# Altium schematic symbol library Inductors.SchLib: 19 symbols
Pins are listed as number, name and electrical type; pins without a type are passive.

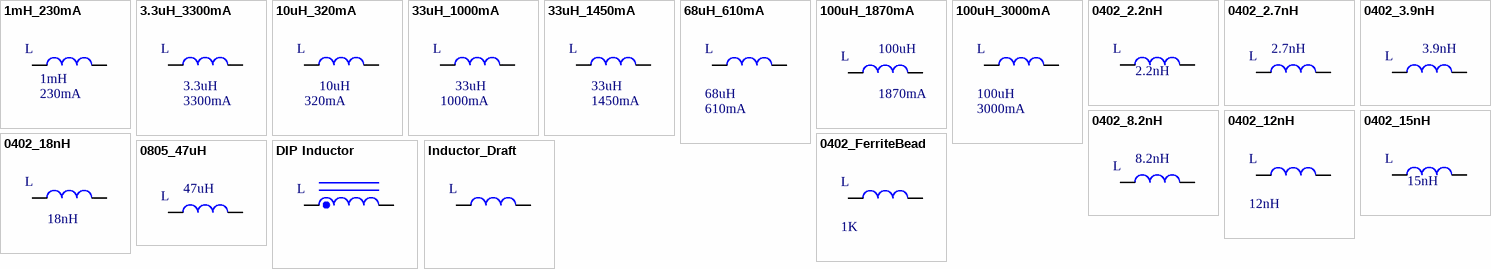
[diagram p0: symbols 1mH_230mA to Inductor_Draft]

## 1mH_230mA
designator L  value 1mH  Current: 230mA  (hidden comment: *)
Manufacturer: Multicomp; Manufacturer Code: MCSDC1006-102KU; Farnell Code: 1864199; Unit Price: 0,21 €
footprint MCSDC1006-102KU
pins: 1, 2

## 3.3uH_3300mA
designator L  value 3.3uH  Current: 3300mA  (hidden comment: *)
Manufacturer: WURTH ELEKTRONIK; Manufacturer Code: 7447779003; Unit Price: 2,03 €; Farnell Code: 2082705; MOQ: 1
footprint Power Inductor
pins: 1, 2

## 10uH_320mA
designator L  value 10uH  Current: 320mA  (hidden comment: *)
Manufacturer: WURTH ELEKTRONIK; Manufacturer Code: 744032100; Farnell Code: 1800387RL; MOQ: 10; Unit Price: 0,74 €
footprint 744032100 (Footprint not found)
pins: 1, 2

## 33uH_1000mA
designator L  value 33uH  Current: 1000mA  (hidden comment: *)
footprint 33uH (7x7x4 Dimensions)
pins: 1, 2

## 33uH_1450mA
designator L  value 33uH  Current: 1450mA  (hidden comment: *)
Manufacturer: Murata Power Solutions; Manufacturer Code: 46333C; Unit Price: 0,67; Farnell Code: 2062833
footprint Power Inductor
pins: 1, 2

## 68uH_610mA
designator L  value 68uH  Current: 610mA  (hidden comment: *)
Manufacturer: EPCOS; Manufacturer Code: B82471A1683K000; DC Resistance: 0.46R; Farnell Code: 1644566; Unit Price: 0,64 €
footprint B82471A1 (Dimensions 6.1x5.6x4.9 [mm])
pins: 1, 2

## 100uH_1870mA
designator L  value 100uH  Current: 1870mA  (hidden comment: *)
Manufacturer Code: B82477P4104M000; Manufacturer: EPCOS; DC Resistance: 0.138R; Farnell Code: 1644643; Unit Price: 1,52 €
footprint B82477P4 (Dimension 12.5x12.5x8.5 [mm])
pins: 1, 2

## 100uH_3000mA
designator L  value 100uH  Current: 3000mA  (hidden comment: *)
Manufacturer Code: SDR2207-101KL; Manufacturer: BOURNS; Unit Price: 1,15 €; Farnell Code: 1612709
footprint SDR2207-101KL (Dimension 15x22x7 [mm])
pins: 1, 2

## 0402_2.2nH
designator L  value 2.2nH  (hidden comment: *)
Manufacturer: MURATA; Manufacturer Code: LWQ15AN2N2C10D; Tolerance: ±2%; DC Current Rating: 1000mA; Unit Price: 0,48 €; Farnell Code: 1762601
footprint 0402 Inductor
pins: 1, 2

## 0402_2.7nH
designator L  value 2.7nH  (hidden comment: *)
Manufacturer: JOHANSON TECHNOLOGY; Manufacturer Code: L-07W2N7CV4T; DC Current: 640mA; Tolerance: ± 0.2nH; Unit Price: 0,108 €; Farnell Code: 1865823
footprint 0402 Inductor
pins: 1, 2

## 0402_3.9nH
designator L  value 3.9nH  (hidden comment: *)
Manufacturer: JOHANSON TECHNOLOGY; Manufacturer Code: L-07W3N9CV4T; Tolerance: ± 0.2nH; DC Current: 840mA; Unit Price: 0,20 €; Farnell Code: 1865825
footprint 0402 Inductor
pins: 1, 2

## 0402_8.2nH
designator L  value 8.2nH  (hidden comment: *)
Manufacturer: JOHANSON TECHNOLOGY; Manufacturer Code: L-07C8N2JV6T; Tolerance: ± 5%; DC Current: 250mA; Farnell Code: 1865771; Unit Price: 0.033 €
footprint 0402 Inductor
pins: 1, 2

## 0402_12nH
designator L  value 12nH  (hidden comment: *)
Manufacturer: MURATA; Manufacturer Code: LQW15AN12NG00D; Tolerance: ±2%; DC Current Rating: 500mA; Unit Price: 0,36 €; Farnell Code: 1762619
footprint 0402 Inductor (Footprint not found)
pins: 1, 2

## 0402_15nH
designator L  value 15nH  (hidden comment: *)
Manufacturer: MURATA; Manufacturer Code: LQW15AN15NG00D; Tolerance: ±2%; DC Current Rating: 460mA; Unit Price: 0,38 €; Farnell Code: 1762621
footprint 0402 Inductor (Footprint not found)
pins: 1, 2

## 0402_18nH
designator L  value 18nH  (hidden comment: *)
Manufacturer: MURATA; Manufacturer Code: LQW15AN18NG00D; Tolerance: ±2%; DC Current Rating: 370mA; Unit Price: 0,27 €; Farnell Code: 1762622
footprint 0402 Inductor (Footprint not found)
pins: 1, 2

## 0402_FerriteBead
designator L  value 1K  (hidden comment: *)
Manufacturer: MURATA; Manufacturer Code: BLM15HG102SN1D; Tolerance: ±25%; DC Current Rating: 250mA; Unit Price: 0,17 €; Farnell Code: 1515788
footprint 0402 Inductor (Footprint not found)
pins: 1, 2

## 0805_47uH
designator L  value 47uH  (hidden comment: *)
Manufacturer Code: MLF2012K470K; Manufacturer: TDK; Current: 4mA; Farnell Code: 1669567; Unit Price: 0,22 €
footprint 0805
pins: 1, 2

## DIP Inductor
designator L  (value not drawn)
Tolerance: ±%
footprint DIP Inductor (Footprint not found)
pins: 1, 2

## Inductor_Draft
designator L  (value not drawn)
Tolerance: ±%
footprint 0402 Inductor (Footprint not found)
pins: 1, 2